# Altium schematic symbol library 栅极驱动.SchLib: 2 symbols
Pins are listed as number, name and electrical type; pins without a type are passive.

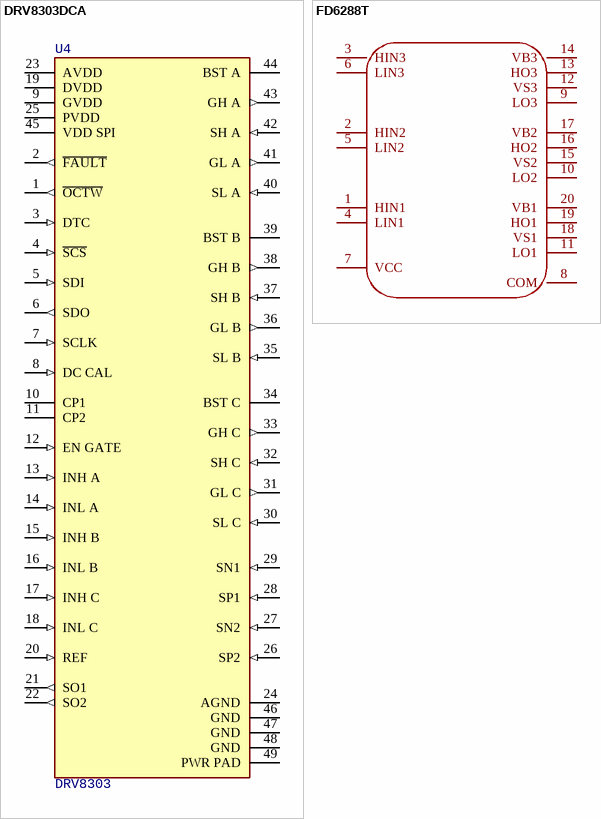
[diagram p0: symbols DRV8303DCA to FD6288T]

## DRV8303DCA
designator U4, comment DRV8303
65-V max 3-phase gate driver with current shunt amplifiers & SPI 48-HTSSOP -40 to 125
footprint Texas_Instruments_DCA0048A_IPC_C
footprint DRV8303
footprint DRV8303(HTSSOP-56-6mm)
pins: 1 ~{OCTW} (out), 2 ~{FAULT} (out), 3 DTC (in), 4 ~{SCS} (in), 5 SDI (in), 6 SDO (out), 7 SCLK (in), 8 DC CAL (in), 9 GVDD (power), 10 CP1, 11 CP2, 12 EN GATE (in), 13 INH A (in), 14 INL A (in), 15 INH B (in), 16 INL B (in), 17 INH C (in), 18 INL C (in), 19 DVDD (power), 20 REF (in), 21 SO1 (out), 22 SO2 (out), 23 AVDD (power), 24 AGND (power), 25 PVDD (power), 26 SP2 (in), 27 SN2 (in), 28 SP1 (in), 29 SN1 (in), 30 SL C (in), 31 GL C (out), 32 SH C (in), 33 GH C (out), 34 BST C (power), 35 SL B (in), 36 GL B (out), 37 SH B (in), 38 GH B (out), 39 BST B (power), 40 SL A (in), 41 GL A (out), 42 SH A (in), 43 GH A (out), 44 BST A, 45 VDD SPI (power), 46 GND (power), 47 GND (power), 48 GND (power), 49 PWR PAD (power)

## FD6288T
designator U?  (value not drawn)
Manufacturer: Fortior Tech(峰岹); Symbol: FD6288; Add into BOM: yes; Device: FD6288T; LCSC Part Name: FD6288T; Supplier Part: C97683; Manufacturer Part: FD6288T; Supplier Footprint: TSSOP-20; JLCPCB Part Class: Extended Part; Datasheet: https://atta.szlcsc.com/upload/public/pdf/source/20241101/0E2856EB301EAFFED732065FB088D773.pdf; Supplier: LCSC; Convert to PCB: yes
footprint TSSOP-20_L6.5-W4.4-P0.65-LS6.4-BL
3D model TSSOP-20_L6.5-W4.4-H1.0-LS6.4-P0.65
footprint FD6288T(TSSOP-20)
pins: 1 HIN1, 2 HIN2, 3 HIN3, 4 LIN1, 5 LIN2, 6 LIN3, 7 VCC, 8 COM, 9 LO3, 10 LO2, 11 LO1, 12 VS3, 13 HO3, 14 VB3, 15 VS2, 16 HO2, 17 VB2, 18 VS1, 19 HO1, 20 VB1